# Altium footprint library hello.PcbLib: 23 footprints (part 2 of 2)
Each footprint in its own frame and in the unit in brackets; x right, y up, seen from the top. Pads: shape width x height; smd on the part's side, far side on the other; paste and mask are expansions set on the pad; w line width, h text height; cw(c..) or ccw(c..) is an arc to the next point about the centre after c.
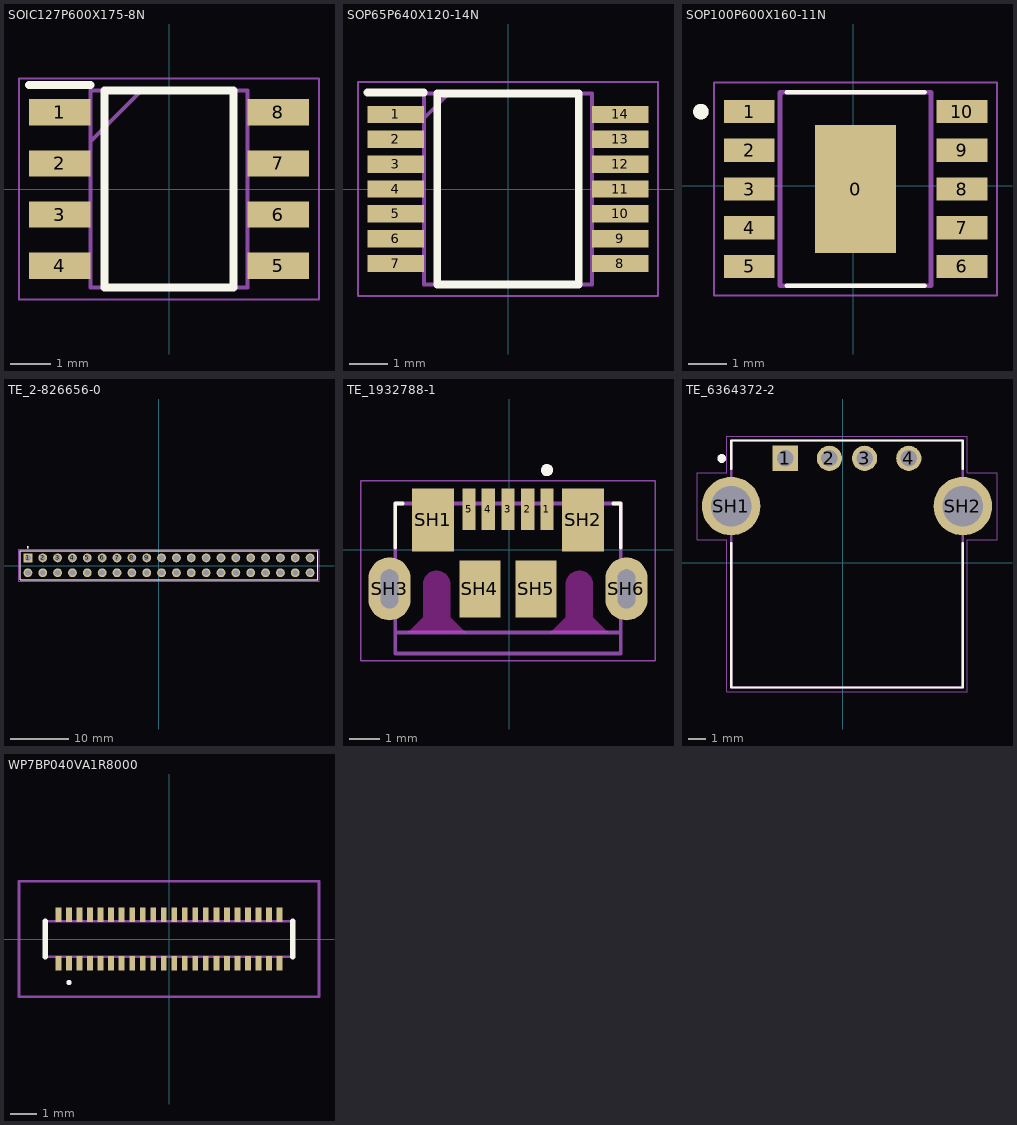
[diagram p1: the footprints below, top view; thin cyan lines are the x and y axes]

## SOIC127P600X175-8N [mm]
pads (8):
  rect 1.525x0.65 smd: 1(-2.712,1.905) 2(-2.712,0.635) 3(-2.712,-0.635) 4(-2.712,-1.905) 5(2.712,-1.905) 6(2.712,-0.635) 7(2.712,0.635) 8(2.712,1.905)
Top Overlay:
  lines w0.2: -3.475,2.58 -1.95,2.58 ; -1.6,-2.45 1.6,-2.45 1.6,2.45 -1.6,2.45 -1.6,-2.45
Mechanical 13:
  lines w0.1: -1.95,1.18 -0.68,2.45 ; -1.95,-2.45 1.95,-2.45 1.95,2.45 -1.95,2.45 -1.95,-2.45
Mechanical 15:
  lines w0.05: -3.725,-2.75 3.725,-2.75 3.725,2.75 -3.725,2.75 -3.725,-2.75
3D body "NE555DR.stp": height 1.75, standoff 0, extent -3,-2.45 3,2.45

## SOP65P640X120-14N [mm]
pads (14):
  rect 1.475x0.45 smd: 1(-2.938,1.95) 2(-2.938,1.3) 3(-2.938,0.65) 4(-2.938,0) 5(-2.938,-0.65) 6(-2.938,-1.3) 7(-2.938,-1.95) 8(2.938,-1.95) 9(2.938,-1.3) 10(2.938,-0.65) 11(2.938,0) 12(2.938,0.65) 13(2.938,1.3) 14(2.938,1.95)
Top Overlay:
  lines w0.2: -3.675,2.525 -2.2,2.525 ; -1.85,-2.5 1.85,-2.5 1.85,2.5 -1.85,2.5 -1.85,-2.5
Mechanical 13:
  lines w0.1: -2.2,1.85 -1.55,2.5 ; -2.2,-2.5 2.2,-2.5 2.2,2.5 -2.2,2.5 -2.2,-2.5
Mechanical 15:
  lines w0.05: -3.925,-2.8 3.925,-2.8 3.925,2.8 -3.925,2.8 -3.925,-2.8
3D body "TXB0104PWR.stp": height 1, standoff 0, extent -3.21,-2.5 3.21,2.5

## SOP100P600X160-11N [mm]
pads (11):
  rect 2.1x3.3 smd paste-3: 0(0.064,-0.084)
  rect 1.31x0.6 smd: 1(-2.686,1.916) 2(-2.686,0.916) 3(-2.686,-0.084) 4(-2.686,-1.084) 5(-2.686,-2.084) 6(2.814,-2.084) 7(2.814,-1.084) 8(2.814,-0.084) 9(2.814,0.916) 10(2.814,1.916)
Top Overlay:
  circle w0.2: c-3.936,1.916 r0.1
  lines w0.127: -1.716,-2.584 1.844,-2.584 ; -1.716,2.416 1.844,2.416
Top Paste:
  region: 0.728,-1.127 -0.6,-1.127 -0.6,0.96 0.728,0.96
Mechanical 13:
  circle w0.2: c-3.936,1.916 r0.1
  lines w0.127: -1.886,-2.584 -1.886,2.416 2.014,2.416 2.014,-2.584 -1.886,-2.584
Mechanical 15:
  lines w0.05: -3.591,-2.834 -3.591,2.666 3.719,2.666 3.719,-2.834 -3.591,-2.834
3D body "CH340K--3DModel-STEP-269445.STEP": height 1.6, standoff 0, extent -2.936,-2.584 3.064,2.416

## TE_2-826656-0 [mm]
pads (40):
  rect 1.508x1.508 hole 1: 1(-22.36,1.331)
  round 1.508 hole 1: 2(-19.82,1.331) 3(-17.28,1.331) 4(-14.74,1.331) 5(-12.2,1.331) 6(-9.66,1.331) 7(-7.12,1.331) 8(-4.58,1.331) 9(-2.04,1.331) 10(0.5,1.331) 11(3.04,1.331) 12(5.58,1.331) 13(8.12,1.331) 14(10.66,1.331) 15(13.2,1.331) 16(15.74,1.331) 17(18.28,1.331) 18(20.82,1.331) 19(23.36,1.331) 20(25.9,1.331) 21(-22.36,-1.209) 22(-19.82,-1.209) 23(-17.28,-1.209) 24(-14.74,-1.209) 25(-12.2,-1.209) 26(-9.66,-1.209) 27(-7.12,-1.209) 28(-4.58,-1.209) 29(-2.04,-1.209) 30(0.5,-1.209) 31(3.04,-1.209) 32(5.58,-1.209) 33(8.12,-1.209) 34(10.66,-1.209) 35(13.2,-1.209) 36(15.74,-1.209) 37(18.28,-1.209) 38(20.82,-1.209) 39(23.36,-1.209) 40(25.9,-1.209)
Top Overlay:
  circle w0.2: c-22.36,3.161 r0.1
  lines w0.127: -23.63,-2.439 -23.63,2.561 27.17,2.561 27.17,-2.439 -23.63,-2.439
Mechanical 13:
  circle w0.2: c-22.36,3.161 r0.1
  lines w0.127: -23.63,-2.439 -23.63,2.561 27.17,2.561 27.17,-2.439 -23.63,-2.439
Mechanical 15:
  lines w0.05: -23.88,-2.689 -23.88,2.811 27.42,2.811 27.42,-2.689 -23.88,-2.689
3D body "2-826656-0--3DModel-STEP-1.STEP": height 8.59, standoff -3.21, extent -23.626,-2.434 27.174,2.566

## TE_1932788-1 [mm]
pads (11):
  rect 0.45x1.38 smd: 1(1.264,1.361) 2(0.614,1.361) 3(-0.036,1.361) 4(-0.686,1.361) 5(-1.336,1.361)
  rect 1.4x2.1 smd: SH1(-2.536,1.001) SH2(2.464,1.001)
  oval 1.4x2.1 hole 0.6 slot 1.3 at 90 deg: SH3(-3.986,-1.299) SH6(3.914,-1.299)
  rect 1.375x1.9 smd: SH4(-0.973,-1.299) SH5(0.902,-1.299)
Top Overlay:
  circle w0.2: c1.264,2.661 r0.1
  lines w0.127: -3.796,0.071 -3.796,1.551 -3.556,1.551 ; 3.484,1.551 3.724,1.551 3.724,0.071
Keep-Out Layer:
  board cut-out: 1.389,-2.749 1.889,-2.249 1.889,-1.149 1.89,-1.125 1.891,-1.102 1.895,-1.079 1.899,-1.055 1.904,-1.033 1.911,-1.01 1.919,-0.988 1.928,-0.966 1.938,-0.945 1.949,-0.924 1.962,-0.904 1.975,-0.884 1.989,-0.866 2.005,-0.848 2.021,-0.831 2.038,-0.815 2.056,-0.799 2.074,-0.785 2.094,-0.772 2.114,-0.759 2.135,-0.748 2.156,-0.738 2.178,-0.729 2.2,-0.721 2.223,-0.714 2.245,-0.709 2.269,-0.705 2.292,-0.701 2.315,-0.7 2.339,-0.699 2.359,-0.699 2.383,-0.699 2.407,-0.701 2.43,-0.705 2.454,-0.709 2.477,-0.715 2.5,-0.723 2.522,-0.731 2.544,-0.741 2.565,-0.751 2.585,-0.764 2.605,-0.777 2.625,-0.791 2.643,-0.806 2.66,-0.822 2.677,-0.84 2.692,-0.858 2.707,-0.876 2.72,-0.896 2.733,-0.917 2.744,-0.938 2.754,-0.959 2.763,-0.981 2.771,-1.004 2.777,-1.027 2.782,-1.05 2.786,-1.074 2.788,-1.098 2.789,-1.121 2.789,-1.149 2.789,-2.249 3.289,-2.749
  board cut-out: -3.361,-2.749 -2.861,-2.249 -2.861,-1.149 -2.861,-1.121 -2.86,-1.098 -2.858,-1.074 -2.854,-1.05 -2.849,-1.027 -2.843,-1.004 -2.835,-0.981 -2.826,-0.959 -2.816,-0.938 -2.805,-0.917 -2.792,-0.896 -2.779,-0.876 -2.764,-0.858 -2.749,-0.84 -2.732,-0.822 -2.715,-0.806 -2.697,-0.791 -2.677,-0.777 -2.657,-0.764 -2.637,-0.751 -2.616,-0.741 -2.594,-0.731 -2.572,-0.723 -2.549,-0.715 -2.526,-0.709 -2.502,-0.705 -2.479,-0.701 -2.455,-0.699 -2.431,-0.699 -2.411,-0.699 -2.387,-0.7 -2.364,-0.701 -2.341,-0.705 -2.317,-0.709 -2.295,-0.714 -2.272,-0.721 -2.25,-0.729 -2.228,-0.738 -2.207,-0.748 -2.186,-0.759 -2.166,-0.772 -2.146,-0.785 -2.128,-0.799 -2.11,-0.815 -2.093,-0.831 -2.077,-0.848 -2.061,-0.866 -2.047,-0.884 -2.034,-0.904 -2.021,-0.924 -2.01,-0.945 -2,-0.966 -1.991,-0.988 -1.983,-1.01 -1.976,-1.033 -1.971,-1.055 -1.967,-1.079 -1.963,-1.102 -1.962,-1.125 -1.961,-1.149 -1.961,-2.249 -1.461,-2.749
Mechanical 13:
  circle w0.2: c1.264,2.661 r0.1
  lines w0.127: -3.796,-2.749 3.724,-2.749 ; -3.796,-2.749 -3.796,1.551 3.724,1.551 3.724,-2.749 ; -3.796,-2.749 -3.796,-3.449 3.724,-3.449 3.724,-2.749
Mechanical 15:
  lines w0.05: -4.936,-3.699 4.864,-3.699 4.864,2.301 -4.936,2.301 -4.936,-3.699
3D body "step_temp.STEP": height 2.48, standoff -0.8, extent -4.136,-3.449 4.064,1.701

## TE_6364372-2 [mm]
pads (6):
  rect 1.428x1.428 / inner round 1.428 / far side rect 1.428x1.428 hole 0.92: 1(-3.271,5.926)
  round 1.428 hole 0.92: 2(-0.771,5.926) 3(1.229,5.926) 4(3.729,5.926)
  round 3.316 hole 2.3: SH1(-6.341,3.216) SH2(6.799,3.216)
Top Overlay:
  circle w0.3: c-6.871,5.916 r0.1
  lines w0.127: -6.336,1.116 -6.336,-7.064 6.794,-7.064 6.794,1.116 ; -6.336,5.316 -6.336,6.936 6.794,6.936 6.794,5.316
Mechanical 13:
  lines w0.127: -6.336,-7.064 6.794,-7.064 6.794,6.936 -6.336,6.936 -6.336,-7.064
Mechanical 15:
  lines w0.05: -8.271,1.316 -6.586,1.316 -6.586,-7.314 7.044,-7.314 7.044,1.316 8.729,1.316 8.729,5.116 7.044,5.116 7.044,7.186 -6.586,7.186 -6.586,5.116 -8.271,5.116 -8.271,1.316
3D body "6364372-2.stp": height 7.69, standoff -3.17, extent -7.137,-6.959 7.493,7.041

## WP7BP040VA1R8000 [mm]
pads (44):
  rect 0.22x0.55 smd: 1(-3.8,-0.925) 2(-3.8,0.925) 3(-3.4,-0.925) 4(-3.4,0.925) 5(-3,-0.925) 6(-3,0.925) 7(-2.6,-0.925) 8(-2.6,0.925) 9(-2.2,-0.925) 10(-2.2,0.925) 11(-1.8,-0.925) 12(-1.8,0.925) 13(-1.4,-0.925) 14(-1.4,0.925) 15(-1,-0.925) 16(-1,0.925) 17(-0.6,-0.925) 18(-0.6,0.925) 19(-0.2,-0.925) 20(-0.2,0.925) 21(0.2,-0.925) 22(0.2,0.925) 23(0.6,-0.925) 24(0.6,0.925) 25(1,-0.925) 26(1,0.925) 27(1.4,-0.925) 28(1.4,0.925) 29(1.8,-0.925) 30(1.8,0.925) 31(2.2,-0.925) 32(2.2,0.925) 33(2.6,-0.925) 34(2.6,0.925) 35(3,-0.925) 36(3,0.925) 37(3.4,-0.925) 38(3.4,0.925) 39(3.8,-0.925) 40(3.8,0.925) 41(-4.2,-0.925) 42(-4.2,0.925) 43(4.2,-0.925) 44(4.2,0.925)
Top Overlay:
  lines w0.1: -3.8,-1.7 cw(c-3.8,-1.65) -3.8,-1.6 cw(c-3.8,-1.65) -3.8,-1.7
  lines w0.2: -4.7,-0.68 -4.7,0.68 ; 4.7,-0.68 4.7,0.68
Mechanical 13:
  lines w0.1: -4.7,-0.68 4.7,-0.68 4.7,0.68 -4.7,0.68 -4.7,-0.68
Mechanical 15:
  lines w0.1: -5.7,-2.2 5.7,-2.2 5.7,2.2 -5.7,2.2 -5.7,-2.2
3D body "WP7B-P040VA1-R8000.stp": height 0.52, standoff 0, extent -4.7,-1 4.7,1